# Altium footprint library L298N.PcbLib: 1 footprints
Each footprint in its own frame and in the unit in brackets; x right, y up, seen from the top. Pads: shape width x height; smd on the part's side, far side on the other; paste and mask are expansions set on the pad; w line width, h text height; cw(c..) or ccw(c..) is an arc to the next point about the centre after c.
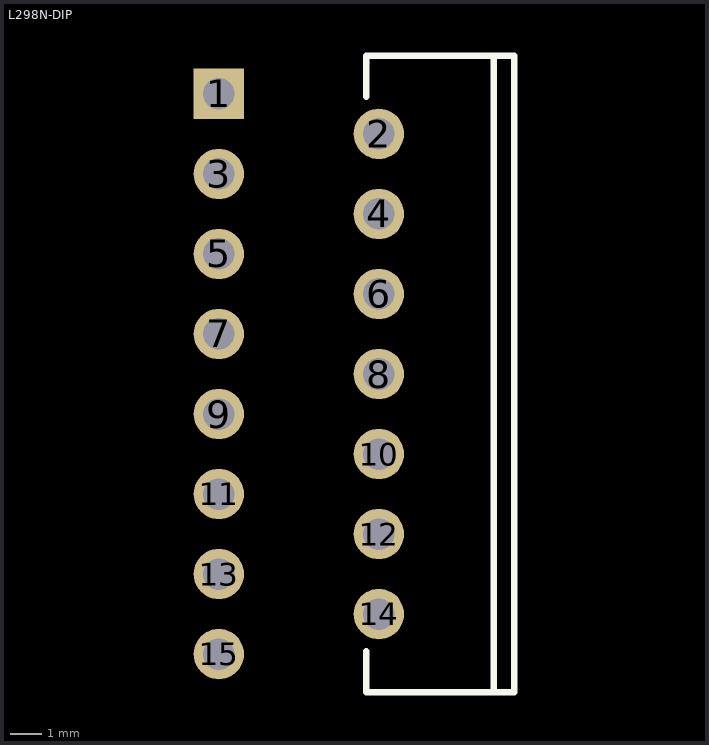
[diagram p0: the footprint, top view; thin cyan lines are the x and y axes]

## L298N-DIP [mm]
pads (15):
  rect 1.6x1.6 hole 1: 1(-1249.635,-1246.864)
  round 1.6 hole 1: 2(-1244.555,-1248.134) 3(-1249.635,-1249.404) 4(-1244.555,-1250.674) 5(-1249.635,-1251.944) 6(-1244.555,-1253.214) 7(-1249.635,-1254.484) 8(-1244.555,-1255.754) 9(-1249.635,-1257.024) 10(-1244.555,-1258.294) 11(-1249.635,-1259.564) 12(-1244.555,-1260.834) 13(-1249.635,-1262.104) 14(-1244.555,-1263.374) 15(-1249.635,-1264.644)
Top Overlay:
  lines w0.2: -1244.955,-1264.554 -1244.955,-1265.854 -1240.255,-1265.854 -1240.255,-1245.654 -1244.955,-1245.654 -1244.955,-1246.954 ; -1240.905,-1265.854 -1240.905,-1245.654